# Altium footprint library SparkFun-Connectors.PCBLIB: 379 footprints (part 16 of 24)
Each footprint in its own frame and in the unit in brackets; x right, y up, seen from the top. Pads: shape width x height; smd on the part's side, far side on the other; paste and mask are expansions set on the pad; w line width, h text height; cw(c..) or ccw(c..) is an arc to the next point about the centre after c.
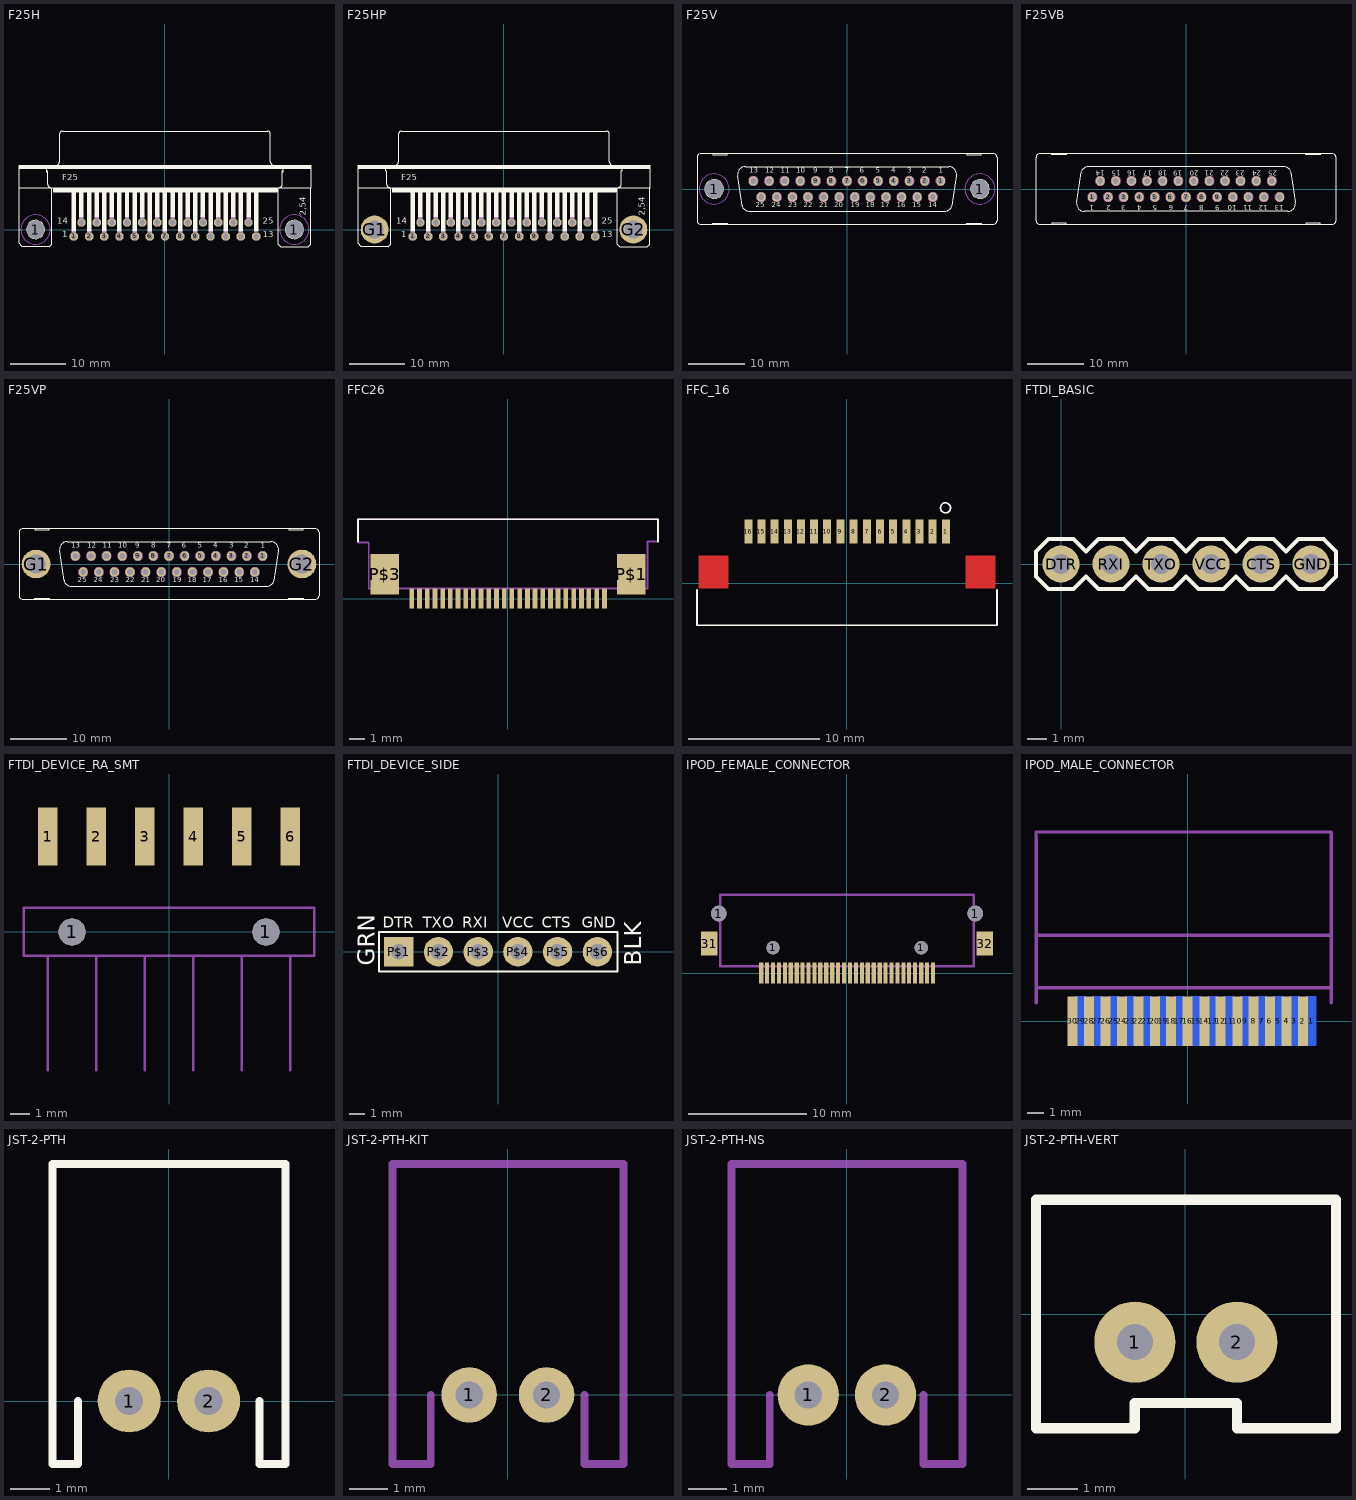
[diagram p15: the footprints below, top view; thin cyan lines are the x and y axes]

## F25H [mil]
pads (27):
  round 130 hole 130: 1(-926,0) 1(926,0)
  oct 60x60 hole 40: 1(-652,-50) 2(-543,-50) 3(-435,-50) 4(-326,-50) 5(-217,-50) 6(-109,-50) 7(0,-50) 8(109,-50) 9(217,-50) 10(326,-50) 11(435,-50) 12(543,-50) 13(652,-50) 14(-598,50) 15(-489,50) 16(-380,50) 17(-272,50) 18(-163,50) 19(-54,50) 20(54,50) 21(163,50) 22(272,50) 23(380,50) 24(489,50) 25(598,50)
Top Overlay:
  circle w6: c-926,0 r65
  circle w6: c926,0 r65
  rectangle: -800,270 800,300
  rectangle: -1045,440 1045,460
  rectangle: -668,-15 -636,270
  rectangle: -614,85 -582,270
  rectangle: -559,-15 -527,270
  rectangle: -505,85 -473,270
  rectangle: -451,-15 -419,270
  rectangle: -396,85 -364,270
  rectangle: -342,-15 -310,270
  rectangle: -288,85 -256,270
  rectangle: -233,-15 -201,270
  rectangle: -179,85 -147,270
  rectangle: -125,-15 -93,270
  rectangle: -70,85 -38,270
  rectangle: -16,-15 16,270
  rectangle: 38,85 70,270
  rectangle: 93,-15 125,270
  rectangle: 147,85 179,270
  rectangle: 201,-15 233,270
  rectangle: 255,85 287,270
  rectangle: 310,-15 342,270
  rectangle: 364,85 396,270
  rectangle: 419,-15 451,270
  rectangle: 473,85 505,270
  rectangle: 527,-15 559,270
  rectangle: 582,85 614,270
  rectangle: 636,-15 668,270
  lines w6: -845,410 -845,420 ; -815,300 cw(c-815,325) -840,325 -840,420 -845,420 ; -780,460 ccw(c-780,485) -755,485 -755,685 cw(c-735,685) -735,705 -725,705 725,705 735,705 cw(c735,685) 755,685 755,485 ccw(c780,485) 780,460 ; 815,300 ccw(c815,325) 840,325 840,420 845,420 ; 845,410 845,420 ; -1045,300 -845,300 -810,300 ; -1045,300 -1045,420 -1045,440 ; -1045,300 -1045,295 -1045,-100 -1020,-125 -830,-125 -810,-105 -810,300 ; -1045,440 -1045,460 -740,460 740,460 1045,460 1045,440 ; -1045,440 -945,440 -845,440 ; -845,420 -845,440 ; -845,440 845,440 ; -810,300 -800,300 ; -800,300 -800,270 800,270 800,300 ; -800,300 800,300 ; 800,300 810,300 ; 810,300 845,300 1045,300 ; 810,300 810,-105 830,-125 1025,-125 1045,-105 1045,295 1045,300 ; 845,420 845,440 ; 845,440 945,440 1045,440 ; 1045,300 1045,420 1045,440
  text "1" at -735,-75 h77.5
  text "13" at 700,-75 h77.5
  text "14" at -770,25 h77.5
  text "25" at 700,25 h77.5
  text "2,54" at 1025,100 h77.5
  text "F25" at -735,335 h77.5
Mechanical 2:
  text ">NAME" at -1035,-250 h108.5
Mechanical 4:
  text ">VALUE" at -330,550 h108.5
Mechanical 9:
  circle w0: c-926,0 r105
  circle w0: c926,0 r105
Mechanical 10:
  circle w0: c-926,0 r105
  circle w0: c926,0 r105
Mechanical 16:
  lines w6: 652,-45 652,-5
  lines w32: -652,-45 -652,-5 ; -598,55 -598,95 ; -543,-45 -543,-5 ; -489,55 -489,95 ; -435,-45 -435,-5 ; -380,55 -380,95 ; -326,-45 -326,-5 ; -272,55 -272,95 ; -217,-45 -217,-5 ; -163,55 -163,95 ; -109,-45 -109,-5 ; -54,55 -54,95 ; 0,-45 0,-5 ; 54,55 54,95 ; 109,-45 109,-5 ; 163,55 163,95 ; 217,-45 217,-5 ; 271,55 271,95 ; 326,-45 326,-5 ; 380,55 380,95 ; 435,-45 435,-5 ; 489,55 489,95 ; 543,-45 543,-5 ; 598,55 598,95

## F25HP [mil]
pads (27):
  oct 60x60 hole 40: 1(-652,-50) 2(-543,-50) 3(-435,-50) 4(-326,-50) 5(-217,-50) 6(-109,-50) 7(0,-50) 8(109,-50) 9(217,-50) 10(326,-50) 11(435,-50) 12(543,-50) 13(652,-50) 14(-598,50) 15(-489,50) 16(-380,50) 17(-272,50) 18(-163,50) 19(-54,50) 20(54,50) 21(163,50) 22(272,50) 23(380,50) 24(489,50) 25(598,50)
  round 200 hole 130: G1(-926,0) G2(926,0)
Top Overlay:
  circle w6: c-926,0 r65
  circle w6: c926,0 r65
  rectangle: -800,270 800,300
  rectangle: -1045,440 1045,460
  rectangle: -668,-15 -636,270
  rectangle: -614,85 -582,270
  rectangle: -559,-15 -527,270
  rectangle: -505,85 -473,270
  rectangle: -451,-15 -419,270
  rectangle: -396,85 -364,270
  rectangle: -342,-15 -310,270
  rectangle: -288,85 -256,270
  rectangle: -233,-15 -201,270
  rectangle: -179,85 -147,270
  rectangle: -124,-15 -92,270
  rectangle: -70,85 -38,270
  rectangle: -16,-15 16,270
  rectangle: 38,85 70,270
  rectangle: 93,-15 125,270
  rectangle: 147,85 179,270
  rectangle: 201,-15 233,270
  rectangle: 256,85 288,270
  rectangle: 310,-15 342,270
  rectangle: 364,85 396,270
  rectangle: 419,-15 451,270
  rectangle: 472,85 504,270
  rectangle: 527,-15 559,270
  rectangle: 581,85 613,270
  rectangle: 636,-15 668,270
  lines w6: -815,300 cw(c-815,325) -840,325 -840,420 -845,420 -845,440 ; -780,460 ccw(c-780,485) -755,485 -755,685 cw(c-735,685) -735,705 -725,705 725,705 735,705 cw(c735,685) 755,685 755,485 ccw(c780,485) 780,460 ; 815,300 ccw(c815,325) 840,325 840,420 845,420 845,440 ; -1045,300 -845,300 -810,300 ; -1045,300 -1045,420 -1045,440 ; -1045,300 -1045,295 -1045,-100 -1020,-125 -830,-125 -810,-105 -810,300 ; -1045,440 -1045,460 -740,460 740,460 1045,460 1045,440 ; -1045,440 -945,440 -845,440 ; -845,440 845,440 ; -810,300 -800,300 ; -800,300 -800,270 800,270 800,300 ; -800,300 800,300 ; 800,300 810,300 ; 810,300 845,300 1045,300 ; 810,300 810,-105 830,-125 1025,-125 1045,-105 1045,295 1045,300 ; 845,440 945,440 1045,440 ; 1045,300 1045,420 1045,440
  text "1" at -735,-75 h77.5
  text "13" at 700,-75 h77.5
  text "14" at -770,25 h77.5
  text "25" at 700,25 h77.5
  text "2,54" at 1025,100 h77.5
  text "F25" at -735,335 h77.5
Mechanical 2:
  text ">NAME" at -1035,-250 h108.5
Mechanical 4:
  text ">VALUE" at -330,550 h108.5
Mechanical 16:
  lines w6: 652,-45 652,-5
  lines w32: -652,-45 -652,-5 ; -598,55 -598,95 ; -543,-45 -543,-5 ; -489,55 -489,95 ; -435,-45 -435,-5 ; -380,55 -380,95 ; -326,-45 -326,-5 ; -272,55 -272,95 ; -217,-45 -217,-5 ; -163,55 -163,95 ; -109,-45 -109,-5 ; -54,55 -54,95 ; 0,-45 0,-5 ; 54,55 54,95 ; 109,-45 109,-5 ; 163,55 163,95 ; 217,-45 217,-5 ; 272,55 272,95 ; 326,-45 326,-5 ; 380,55 380,95 ; 435,-45 435,-5 ; 488,55 488,95 ; 543,-45 543,-5 ; 597,55 597,95

## F25V [mil]
pads (27):
  round 130 hole 130: 1(-926,0) 1(926,0)
  oct 60x60 hole 40: 1(652,56) 2(543,56) 3(435,56) 4(326,56) 5(217,56) 6(109,56) 7(0,56) 8(-109,56) 9(-217,56) 10(-326,56) 11(-435,56) 12(-543,56) 13(-652,56) 14(598,-56) 15(489,-56) 16(380,-56) 17(272,-56) 18(163,-56) 19(54,-56) 20(-54,-56) 21(-163,-56) 22(-272,-56) 23(-380,-56) 24(-489,-56) 25(-598,-56)
Top Overlay:
  circle w6: c-926,0 r65
  circle w6: c926,0 r65
  lines w6: -762,92 -731,-116 ; -761.97,92 cw(c-710.16,102.2) -710,155 710,155 cw(c710.22,102.06) 762,91 731,-115 ; -731.3,-115.33 ccw(c-680,-102) -680,-155 680,-155 ccw(c680.23,-101.7) 732,-114.37 ; -935,-245 -935,-240 -835,-240 -835,-245 ; -935,-245 -835,-245 ; -935,-245 -1020,-245 cw(c-1020,-220) -1045,-220 -1045,220 cw(c-1020,220) -1020,245 -935,245 ; -935,245 -935,240 -835,240 -835,245 ; -935,245 -835,245 ; -835,-245 835,-245 ; -835,245 835,245 ; 835,-245 835,-240 935,-240 935,-245 ; 835,-245 935,-245 ; 835,245 835,240 935,240 935,245 ; 835,245 935,245 ; 935,-245 1020,-245 ccw(c1020,-220) 1045,-220 1045,220 ccw(c1020,220) 1020,245 935,245
  text "1" at 640,100 h60.45
  text "2" at 525,100 h60.45
  text "3" at 420,100 h60.45
  text "4" at 310,100 h60.45
  text "5" at 200,100 h60.45
  text "6" at 90,100 h60.45
  text "7" at -15,100 h60.45
  text "8" at -125,100 h60.45
  text "9" at -235,100 h60.45
  text "10" at -355,100 h60.45
  text "11" at -460,100 h60.45
  text "12" at -570,100 h60.45
  text "13" at -680,100 h60.45
  text "25" at -635,-140 h60.45
  text "24" at -525,-140 h60.45
  text "23" at -410,-140 h60.45
  text "22" at -300,-140 h60.45
  text "21" at -195,-140 h60.45
  text "20" at -90,-140 h60.45
  text "19" at 25,-140 h60.45
  text "18" at 130,-140 h60.45
  text "17" at 235,-140 h60.45
  text "16" at 345,-140 h60.45
  text "15" at 455,-140 h60.45
  text "14" at 565,-140 h60.45
Mechanical 2:
  text ">NAME" at -1040,275 h108.5
Mechanical 4:
  text ">VALUE" at -100,275 h108.5
Mechanical 9:
  circle w0: c926,0 r105
  circle w0: c-926,0 r105
Mechanical 10:
  circle w0: c926,0 r105
  circle w0: c-926,0 r105
Mechanical 16:
  circle w10: c54,-56 r30
  circle w10: c0,56 r30
  circle w10: c-54,-56 r30
  circle w10: c109,56 r30
  circle w10: c-109,56 r30
  circle w10: c163,-56 r30
  circle w10: c-163,-56 r30
  circle w10: c217,56 r30
  circle w10: c326,56 r30
  circle w10: c272,-56 r30
  circle w10: c380,-56 r30
  circle w10: c435,56 r30
  circle w10: c489,-56 r30
  circle w10: c543,56 r30
  circle w10: c598,-56 r30
  circle w10: c652,56 r30
  circle w10: c-217,56 r30
  circle w10: c-326,56 r30
  circle w10: c-435,56 r30
  circle w10: c-272,-56 r30
  circle w10: c-380,-56 r30
  circle w10: c-489,-56 r30
  circle w10: c-543,56 r30
  circle w10: c-652,56 r30
  circle w10: c-598,-56 r30

## F25VB [mil]
pads (25):
  oct 60x60 hole 40: 1(-652,-56) 2(-543,-56) 3(-435,-56) 4(-326,-56) 5(-217,-56) 6(-109,-56) 7(0,-56) 8(109,-56) 9(217,-56) 10(326,-56) 11(435,-56) 12(543,-56) 13(652,-56) 14(-598,56) 15(-489,56) 16(-380,56) 17(-272,56) 18(-163,56) 19(-54,56) 20(54,56) 21(163,56) 22(272,56) 23(380,56) 24(489,56) 25(598,56)
Top Overlay:
  lines w6: -762,-91 -731,115 ; -761.79,-90.7 ccw(c-710,-101.99) -710,-155 710,-155 ccw(c710.01,-101.99) 762,-91.61 ; -731.52,115 cw(c-680.39,102.31) -680,155 680,155 cw(c680.78,101.88) 732,116 ; 731,116 762,-92 ; -935,-245 -1020,-245 cw(c-1020,-220) -1045,-220 -1045,220 cw(c-1020,220) -1020,245 -935,245 ; -935,-245 -935,-240 -835,-240 -835,-245 ; -935,-245 -835,-245 ; -935,245 -835,245 ; -935,245 -935,240 -835,240 -835,245 ; -835,-245 835,-245 ; -835,245 835,245 ; 835,-245 835,-240 935,-240 935,-245 ; 835,-245 935,-245 ; 835,245 935,245 ; 835,245 835,240 935,240 935,245 ; 935,-245 1020,-245 ccw(c1020,-220) 1045,-220 1045,220 ccw(c1020,220) 1020,245 935,245
  text "1" at -640,-100 h60.45
  text "2" at -525,-100 h60.45
  text "3" at -420,-100 h60.45
  text "4" at -310,-100 h60.45
  text "5" at -200,-100 h60.45
  text "6" at -90,-100 h60.45
  text "7" at 15,-100 h60.45
  text "8" at 125,-100 h60.45
  text "9" at 235,-100 h60.45
  text "10" at 355,-100 h60.45
  text "11" at 460,-100 h60.45
  text "12" at 570,-100 h60.45
  text "13" at 680,-100 h60.45
  text "25" at 635,140 h60.45
  text "24" at 525,140 h60.45
  text "23" at 410,140 h60.45
  text "22" at 300,140 h60.45
  text "21" at 195,140 h60.45
  text "20" at 90,140 h60.45
  text "19" at -25,140 h60.45
  text "18" at -130,140 h60.45
  text "17" at -235,140 h60.45
  text "16" at -345,140 h60.45
  text "15" at -455,140 h60.45
  text "14" at -565,140 h60.45
Mechanical 2:
  text ">NAME" at -990,325 h108.5
Mechanical 4:
  text ">VALUE" at -450,325 h108.5
Mechanical 16:
  circle w10: c-54,56 r30
  circle w10: c0,-56 r30
  circle w10: c54,56 r30
  circle w10: c-109,-56 r30
  circle w10: c109,-56 r30
  circle w10: c-163,56 r30
  circle w10: c163,56 r30
  circle w10: c-217,-56 r30
  circle w10: c-326,-56 r30
  circle w10: c-272,56 r30
  circle w10: c-380,56 r30
  circle w10: c-435,-56 r30
  circle w10: c-489,56 r30
  circle w10: c-543,-56 r30
  circle w10: c-598,56 r30
  circle w10: c-652,-56 r30
  circle w10: c217,-56 r30
  circle w10: c326,-56 r30
  circle w10: c435,-56 r30
  circle w10: c272,56 r30
  circle w10: c380,56 r30
  circle w10: c489,56 r30
  circle w10: c543,-56 r30
  circle w10: c652,-56 r30
  circle w10: c598,56 r30

## F25VP [mil]
pads (27):
  oct 60x60 hole 40: 1(652,56) 2(543,56) 3(435,56) 4(326,56) 5(217,56) 6(109,56) 7(0,56) 8(-109,56) 9(-217,56) 10(-326,56) 11(-435,56) 12(-543,56) 13(-652,56) 14(598,-56) 15(489,-56) 16(380,-56) 17(272,-56) 18(163,-56) 19(54,-56) 20(-54,-56) 21(-163,-56) 22(-272,-56) 23(-380,-56) 24(-489,-56) 25(-598,-56)
  round 200 hole 130: G1(-926,0) G2(926,0)
Top Overlay:
  circle w6: c-926,0 r65
  circle w6: c926,0 r65
  lines w6: -762,92 -731,-116 ; -761.97,92 cw(c-710.16,102.2) -710,155 710,155 cw(c710.22,102.06) 762,91 731,-115 ; -731.3,-115.33 ccw(c-680,-102) -680,-155 680,-155 ccw(c680.23,-101.7) 732,-114.37 ; -935,-245 -935,-240 -835,-240 -835,-245 ; -935,-245 -835,-245 ; -935,-245 -1020,-245 cw(c-1020,-220) -1045,-220 -1045,220 cw(c-1020,220) -1020,245 -935,245 ; -935,245 -935,240 -835,240 -835,245 ; -935,245 -835,245 ; -835,-245 835,-245 ; -835,245 835,245 ; 835,-245 835,-240 935,-240 935,-245 ; 835,-245 935,-245 ; 835,245 835,240 935,240 935,245 ; 835,245 935,245 ; 935,-245 1020,-245 ccw(c1020,-220) 1045,-220 1045,220 ccw(c1020,220) 1020,245 935,245
  text "1" at 640,100 h60.45
  text "2" at 525,100 h60.45
  text "3" at 420,100 h60.45
  text "4" at 310,100 h60.45
  text "5" at 200,100 h60.45
  text "6" at 90,100 h60.45
  text "7" at -15,100 h60.45
  text "8" at -125,100 h60.45
  text "9" at -235,100 h60.45
  text "10" at -355,100 h60.45
  text "11" at -460,100 h60.45
  text "12" at -570,100 h60.45
  text "13" at -680,100 h60.45
  text "25" at -635,-140 h60.45
  text "24" at -525,-140 h60.45
  text "23" at -410,-140 h60.45
  text "22" at -300,-140 h60.45
  text "21" at -195,-140 h60.45
  text "20" at -90,-140 h60.45
  text "19" at 25,-140 h60.45
  text "18" at 130,-140 h60.45
  text "17" at 235,-140 h60.45
  text "16" at 345,-140 h60.45
  text "15" at 455,-140 h60.45
  text "14" at 565,-140 h60.45
Mechanical 2:
  text ">NAME" at -1040,275 h108.5
Mechanical 4:
  text ">VALUE" at -100,275 h108.5
Mechanical 16:
  circle w10: c54,-56 r30
  circle w10: c0,56 r30
  circle w10: c-54,-56 r30
  circle w10: c109,56 r30
  circle w10: c-109,56 r30
  circle w10: c163,-56 r30
  circle w10: c-163,-56 r30
  circle w10: c217,56 r30
  circle w10: c326,56 r30
  circle w10: c272,-56 r30
  circle w10: c380,-56 r30
  circle w10: c435,56 r30
  circle w10: c489,-56 r30
  circle w10: c543,56 r30
  circle w10: c598,-56 r30
  circle w10: c652,56 r30
  circle w10: c-217,56 r30
  circle w10: c-326,56 r30
  circle w10: c-435,56 r30
  circle w10: c-272,-56 r30
  circle w10: c-380,-56 r30
  circle w10: c-489,-56 r30
  circle w10: c-543,56 r30
  circle w10: c-652,56 r30
  circle w10: c-598,-56 r30

## FFC26 [mil]
pads (28):
  rect 12x52 smd: 1(247,0) 2(227,0) 3(207,0) 4(188,0) 5(168,0) 6(148,0) 7(128,0) 8(109,0) 9(89,0) 10(69,0) 11(50,0) 12(30,0) 13(10,0) 14(-9.84,0) 15(-29.53,0) 16(-49.21,0) 17(-68.9,0) 18(-88.58,0) 19(-108.27,0) 20(-127.95,0) 21(-147.64,0) 22(-167.32,0) 23(-187.01,0) 24(-206.69,0) 25(-226.38,0) 26(-246.06,0)
  rect 73x103 smd: P$1(316,62) P$3(-315.94,62)
Top Overlay:
  lines w5: -383.86,146 -383.86,203 384,203 384,146
Mechanical 16:
  rectangle: 6,-17.72 14,26
  rectangle: -33.46,-17.72 -25.59,26
  rectangle: -72.83,-17.72 -64.96,26
  rectangle: -112.2,-17.72 -104.33,26
  rectangle: -151.57,-17.72 -143.7,26
  rectangle: -190.94,-17.72 -183.07,26
  rectangle: -230.31,-17.72 -222.44,26
  rectangle: 46,-17.72 54,26
  rectangle: 85,-17.72 93,26
  rectangle: 125,-17.72 132,26
  rectangle: 164,-17.72 172,26
  rectangle: 203,-17.72 211,26
  rectangle: 243,-17.72 250,26
  rectangle: -250,-17.72 -242.13,26
  rectangle: -210.63,-17.72 -202.76,26
  rectangle: -171.26,-17.72 -163.39,26
  rectangle: -131.89,-17.72 -124.02,26
  rectangle: -92.52,-17.72 -84.65,26
  rectangle: -53.15,-17.72 -45.28,26
  rectangle: -13.78,-17.72 -5.91,26
  rectangle: 26,-17.72 34,26
  rectangle: 65,-17.72 73,26
  rectangle: 105,-17.72 113,26
  rectangle: 144,-17.72 152,26
  rectangle: 184,-17.72 191,26
  rectangle: 223,-17.72 231,26
  rectangle: -349.61,26 -282.68,101
  rectangle: 282,26 349,101
  lines w5: -383.86,144 -383.86,203 384,203 384,146 357,146 357,113 357,26 -356.3,26 -356.3,144 -383.86,144

## FFC_16 [mil]
pads (16):
  rect 24x71 smd: 1(296,154) 2(256,154) 3(217,154) 4(178,154) 5(138,154) 6(99,154) 7(60,154) 8(20,154) 9(-19.68,154) 10(-59.06,154) 11(-98.43,154) 12(-137.8,154) 13(-177.17,154) 14(-216.54,154) 15(-255.91,154) 16(-295.28,154)
Top Layer:
  rectangle: -444.88,-15.75 -354.33,83
  rectangle: 355,-15.75 445,83
Top Overlay:
  circle w5: c295,225 r15
  lines w5: -448.82,-19.68 -448.82,-125.98 449,-125.98 449,-19.68
Top Paste:
  region: 0,0 10,0 10,10 0,10
  region: 0,0 10,0 10,10 0,10
Top Solder:
  region: 0,0 10,0 10,10 0,10
  region: 0,0 10,0 10,10 0,10

## FTDI_BASIC [mil]
pads (6):
  round 74 hole 40: CTS(400,0) DTR(0,0) GND(500,0) RXI(100,0) TXO(200,0) VCC(300,0)
Top Overlay:
  lines w8: -50,-25 -50,25 -25,50 25,50 50,25 75,50 125,50 150,25 175,50 225,50 250,25 275,50 325,50 350,25 375,50 425,50 450,25 475,50 525,50 550,25 550,-25 525,-50 475,-50 450,-25 425,-50 375,-50 350,-25 325,-50 275,-50 250,-25 225,-50 175,-50 150,-25 125,-50 75,-50 50,-25 25,-50 -25,-50 -50,-25
Mechanical 2:
  text ">NAME" at 47,72 h77.5
Mechanical 4:
  text ">VALUE" at 50,-125 h77.5
Mechanical 16:
  rectangle: 490,-10 510,10
  rectangle: 390,-10 410,10
  rectangle: 290,-10 310,10
  rectangle: 190,-10 210,10
  rectangle: 90,-10 110,10
  rectangle: -10,-10 10,10
  text "GRN" at 25,75 h77.5
  text "BLK" at 525,75 h77.5

## FTDI_DEVICE_RA_SMT [mil]
pads (8):
  rect 40x119 smd: 1(-250,197) 2(-150,197) 3(-50,197) 4(50,197) 5(150,197) 6(250,197)
  round 56 hole 56: 1(-200,0) 1(200,0)
Mechanical 2:
  text ">NAME" at -75,75 h49.6
Mechanical 4:
  text ">VALUE" at -75,25 h49.6
Mechanical 16:
  lines w5: -250,-285.43 -250,-49.21 ; -150,-285.43 -150,-49.21 ; -50,-285.43 -50,-49.21 ; 50,-285.43 50,-49.21 ; 150,-285.43 150,-49.21 ; 250,-285.43 250,-49.21 ; -250,-49.21 -300,-49.21 -300,50 300,50 300,-49.21 250,-49.21 ; -250,-49.21 -150,-49.21 ; -150,-49.21 -50,-49.21 ; -50,-49.21 50,-49.21 ; 50,-49.21 150,-49.21 ; 150,-49.21 250,-49.21
  text "TXO" at -150,-40 h27.2
  text "RXI" at -50,-40 h27.2
  text "VCC" at 50,-40 h27.2
  text "DTR" at -250,-40 h27.2
  text "GND" at 250,-40 h27.2
  text "CTS" at 150,-40 h27.2
  text "GRN" at -290,-100 h27.2
  text "BLK" at 290,-100 h27.2

## FTDI_DEVICE_SIDE [mil]
pads (6):
  rect 74x74 hole 40: P$1(-250,0)
  round 74 hole 40: P$2(-150,0) P$3(-50,0) P$4(50,0) P$5(150,0) P$6(250,0)
Top Overlay:
  lines w5: -300,-50 300,-50 300,50 -300,50 -300,-50
  text "GRN" at -310,-35 h42.5
  text "BLK" at 360,-35 h42.5
  text "TXO" at -190,60 h27.2
  text "RXI" at -90,60 h27.2
  text "VCC" at 10,60 h27.2
  text "DTR" at -290,60 h27.2
  text "GND" at 210,60 h27.2
  text "CTS" at 110,60 h27.2

## IPOD_FEMALE_CONNECTOR [mil]
pads (36):
  round 52 hole 52: 1(-426.18,198) 1(427,198)
  rect 14x69 smd: 1(-285.43,0) 2(-265.75,0) 3(-246.06,0) 4(-226.38,0) 5(-206.69,0) 6(-187.01,0) 7(-167.32,0) 8(-147.64,0) 9(-127.95,0) 10(-108.27,0) 11(-88.58,0) 12(-68.9,0) 13(-49.21,0) 14(-29.53,0) 15(-9.84,0) 16(10,0) 17(30,0) 18(50,0) 19(69,0) 20(89,0) 21(109,0) 22(128,0) 23(148,0) 24(168,0) 25(188,0) 26(207,0) 27(227,0) 28(247,0) 29(266,0) 30(286,0)
  round 44 hole 44: 1(-246.06,84) 1(247,84)
  rect 56x81 smd: 31(-458.66,98) 32(459,98)
Mechanical 2:
  text ">Name" at -250,200 h24.8
Mechanical 4:
  text ">Value" at -250,150 h24.8
Mechanical 16:
  lines w8: -421.26,23 422,23 422,261 -421.26,261 -421.26,23

## IPOD_MALE_CONNECTOR [mil]
pads (30):
  rect 24x119 smd far side: 1(296,0) 3(256,0) 5(217,0) 7(178,0) 9(138,0) 11(99,0) 13(60,0) 15(20,0) 17(-19.68,0) 19(-59.06,0) 21(-98.43,0) 23(-137.8,0) 25(-177.17,0) 27(-216.54,0) 29(-255.91,0)
  rect 24x119 smd: 2(276,0) 4(237,0) 6(197,0) 8(158,0) 10(119,0) 12(79,0) 14(40,0) 16(0,0) 18(-39.37,0) 20(-78.74,0) 22(-118.11,0) 24(-157.48,0) 26(-196.85,0) 28(-236.22,0) 30(-275.59,0)
Mechanical 16:
  lines w8: -363.46,206 344,206 344,193 ; -363.34,80 344,80 344,76 ; -363.34,437 -363.34,453 344,453 344,193 ; -363.19,44 -363.19,438 ; 344,44 344,162 ; 344,161 344,193

## JST-2-PTH [mil]
pads (2):
  round 63 hole 28: 1(-39.37,0) 2(40,0)
Top Overlay:
  lines w8: -90.55,0 -90.55,-62.99 -116.14,-62.99 -116.14,237 117,237 117,-62.99 91,-62.99 91,0
Mechanical 2:
  text ">Name" at -50,208 h24.8
Mechanical 4:
  text ">Value" at -50,158 h24.8
Mechanical 16:
  text "+" at 24,28 h77.5
  text "-" at -55.12,28 h77.5

## JST-2-PTH-KIT [mil]
pads (2):
  round 57 hole 28: 1(-39.37,0) 2(40,0)
Top Solder:
  region: 0,0 10,0 10,10 0,10
  region: 0,0 10,0 10,10 0,10
Bottom Solder:
  region: 0,0 10,0 10,10 0,10
  region: 0,0 10,0 10,10 0,10
Mechanical 2:
  text ">Name" at -50,208 h24.8
Mechanical 4:
  text ">Value" at -50,158 h24.8
Mechanical 16:
  lines w8: -78.74,0 -78.74,-70.87 -118.11,-70.87 -118.11,237 119,237 119,-70.87 79,-70.87 79,0
  text "+" at 24,28 h77.5
  text "-" at -55.12,28 h77.5

## JST-2-PTH-NS [mil]
pads (2):
  round 63 hole 28: 1(-39.37,0) 2(40,0)
Mechanical 2:
  text ">Name" at -50,208 h24.8
Mechanical 4:
  text ">Value" at -50,158 h24.8
Mechanical 16:
  lines w8: -78.74,0 -78.74,-70.87 -118.11,-70.87 -118.11,237 119,237 119,-70.87 79,-70.87 79,0
  text "+" at 24,28 h77.5
  text "-" at -55.12,28 h77.5

## JST-2-PTH-VERT [mil]
pads (2):
  round 63 hole 28: 1(-39.37,-21.65) 2(40,-21.65)
Top Overlay:
  lines w8: -116.14,-88.58 -116.14,89 117,89 117,-88.58 40,-88.58 40,-68.9 -39.37,-68.9 -39.37,-88.58 -116.14,-88.58
Mechanical 2:
  text ">Name" at -78.11,119 h24.8
Mechanical 4:
  text ">Value" at 80,119 h24.8
Mechanical 16:
  text "+" at 25,30 h77.5
  text "-" at -54.49,30 h77.5